# EAGLE library part PSA39-21EWA (library RadioStack_v2)
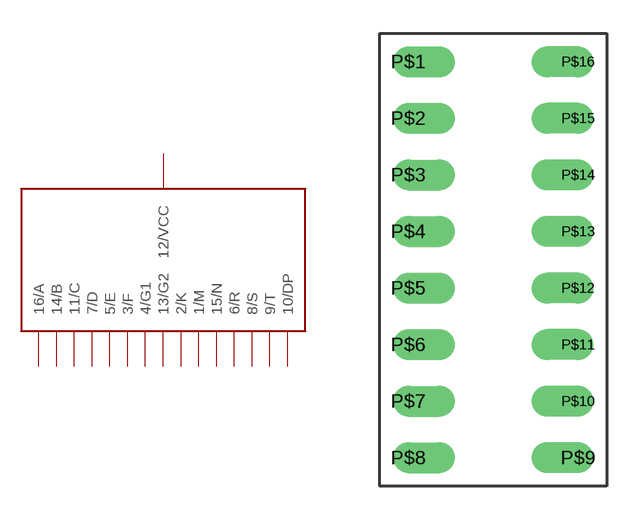
[diagram p12: symbol with the pads of PSA39-21EWA; footprint PSA39-21EWA]

Designator prefix -

## PSA39-21EWA  [PSA39-21EWA]
P$1  1/M
P$2  2/K
P$3  3/F
P$4  4/G1
P$5  5/E
P$6  6/R
P$7  7/D
P$8  8/S
P$9  9/T
P$10  10/DP
P$11  11/C
P$12  12/VCC
P$13  13/G2
P$14  14/B
P$15  15/N
P$16  16/A

## Footprint PSA39-21EWA (pad centres in mm)
drill 0.889 pad 1.27 offset: P$1 0,0; P$2 0,-2.54; P$3 0,-5.08; P$4 0,-7.62; P$5 0,-10.16; P$6 0,-12.7; P$7 0,-15.24; P$8 0,-17.78; P$9 7.62,-17.78; P$10 7.62,-15.24; P$11 7.62,-12.7; P$12 7.62,-10.16; P$13 7.62,-7.62; P$14 7.62,-5.08; P$15 7.62,-2.54; P$16 7.62,0